# Altium schematic symbol library VFD_CLOCK.SCHLIB: 13 symbols
Pins are listed as number, name and electrical type; pins without a type are passive.

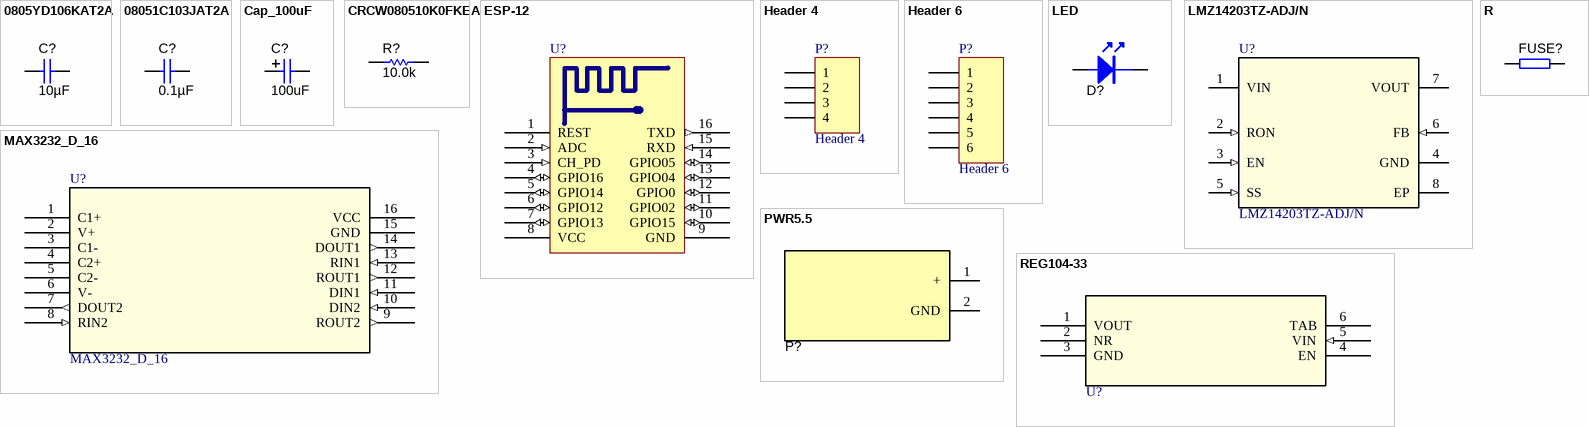
[diagram p0: symbols 0805YD106KAT2A to REG104-33]

## 0805YD106KAT2A
designator C?  ValueDisplayed: 10µF  (hidden comment: 0805YD106KAT2A)
CAP, CERM, 10 µF, 16 V, +/- 10%, X5R, 0805; Manufacturer: AVX; Polarized: N; CompType: Capacitor; Value: 10uF; U/M: EA; Cap_F: 0.00001; Tolerance_%: 10; Value1: Unknown; VDC_V: 16; Value2: 16V; TaMin_C: -55; TaMax_C: 85; Cap_Case: 0805; SizeArea_mm2: 2.5; SizeAreaWB_mm2: 6.75; SizeX_mm: 2; SizeY_mm: 1.25; SizeZ_mm: 1.45; AEC Category: Q200; SymbolVersion: 2008-07-09; PartNumber: 0805YD106KAT2A; PackageReference: 0805; RoHS: Y; MountType: SMT; Technology: Ceramic; TempCo: X5R; Published: 2008-06-19; Publisher: Texas Instruments; LatestRevisionDate: 2016-08-09; ComponentLink1Description: Datasheet link; ComponentLink1URL: http://datasheets.avx.com/cx5r.pdf; Supplier 1: Digi-Key; Supplier Part Number 1: 478-5165-1-ND; Supplier 2: Mouser; Supplier Part Number 2: 581-0805YD106K; Supplier 3: Farnell; Supplier Part Number 3: 2281019; AEC Qualified: N; AEC Grade: N/A
signal-integrity model Cap
simulation model Cap
footprint 0805_HV
footprint 0805_HV1
footprint 0805
footprint 0805M
footprint 0805L
pins: 1, 2

## 08051C103JAT2A
designator C?  ValueDisplayed: 0.1µF  (hidden comment: 08051C103JAT2A)
CAP, CERM, 0.01 µF, 100 V, +/- 5%, X7R, 0805; Manufacturer: AVX; Polarized: N; CompType: Capacitor; Value: 0.01uF; U/M: EA; Cap_F: 0.00000001; Tolerance_%: 5; ESR_ohm: 0.078; Value1: 0.078 ohm; VDC_V: 100; Value2: 100V; TaMin_C: -55; TaMax_C: 125; Cap_Case: 0805; SizeArea_mm2: 2.5; SizeAreaWB_mm2: 6.75; SizeX_mm: 2; SizeY_mm: 1.25; SizeZ_mm: 1.45; AEC Category: Q200; SymbolVersion: 2008-07-09; PartNumber: 08051C103JAT2A; PackageReference: 0805; RoHS: Y; MountType: SMT; Technology: Ceramic; TempCo: X7R; Published: 2008-06-19; Publisher: Texas Instruments; LatestRevisionDate: 2016-08-09; ComponentLink1Description: Datasheet link; ComponentLink1URL: http://datasheets.avx.com/X7RDielectric.pdf; Supplier 1: Digi-Key; Supplier Part Number 1: 478-3745-1-ND; Supplier 2: Mouser; Supplier Part Number 2: 581-08051C103J; Supplier 3: Farnell; Supplier Part Number 3: 1396066; AEC Qualified: N; AEC Grade: N/A
signal-integrity model Cap
simulation model Cap
footprint 0805_HV
footprint 0805_HV1
footprint 0805
footprint 0805M
footprint 0805L
pins: 1, 2

## Cap_100uF
designator C?, comment 100uF
Manufacturer: Used in BOM report; CompType: Used in some BOM reports.  Useful for finding later.; MountType: SMT, TH, or N/A; RoHS: Used in BOM report.  Use Y or N.; PartNumber: Used in BOM report; PackageReference: eg:  0603, used in PnP report; ComponentLink1Description: Datasheet Link; Alternate PartNumber: -; Alternate Manufacturer: -
footprint CAP
pins: 1, 2

## CRCW080510K0FKEA
designator R?  ValueDisplayed: 10.0k  (hidden comment: CRCW080510K0FKEA)
RES, 10.0 k, 1%, 0.125 W, 0805; Manufacturer: Vishay-Dale; CompType: Resistor; Value: 10.0k; Res_ohm: 10000; Value_Code: 10k0; Tolerance_%: 1; Power_W: 0.125; Value2: 0.125W; VDC_V: 150; TempCo: 100 ppm/C; SizeArea_mm2: 2.5; SizeX_mm: 2; SizeY_mm: 1.25; SizeZ_mm: 1.45; EIA_Code: E96; U/M: EA; AEC Category: Q200; SymbolVersion: 2009-05-29; PartNumber: CRCW080510K0FKEA; PackageReference: 0805; RoHS: Y; Value1: 1%; MountType: SMT; Technology: Thick Film; Published: 2008-06-26; Publisher: Texas Instruments; LatestRevisionDate: 2016-08-02; ComponentLink1Description: Datasheet link; ComponentLink1URL: http://www.vishay.com/docs/20035/dcrcwe3.pdf; Supplier 1: Digi-Key; Supplier Part Number 1: 541-10.0KCCT-ND; Supplier 2: Mouser; Supplier Part Number 2: 71-CRCW0805-10K-E3; Supplier 3: Farnell; Supplier Part Number 3: 1469856; AEC Qualified: ?
signal-integrity model Resistor
simulation model Resistor
footprint 0805_HV
footprint 0805_HV1
footprint 0805
footprint 0805M
footprint 0805L
pins: 1, 2

## ESP-12
designator U?  (value not drawn)
footprint ESP_12
pins: 1 REST, 2 ADC (in), 3 CH_PD (in), 4 GPIO16 (io), 5 GPIO14 (io), 6 GPIO12 (io), 7 GPIO13 (io), 8 VCC (power), 9 GND (power), 10 GPIO15 (io), 11 GPIO02 (io), 12 GPIO0 (io), 13 GPIO04 (io), 14 GPIO05 (io), 15 RXD (in), 16 TXD (out)

## Header 4
designator P?
Header, 4-Pin; LatestRevisionDate: 17-Jul-2002; LatestRevisionNote: Re-released for DXP Platform.; Publisher: Altium Limited
footprint HDR1X4 (Connector; Header; 4 Position)
signal-integrity model Connector
pins: 1, 2, 3, 4

## Header 6
designator P?
Header, 6-Pin; LatestRevisionDate: 17-Jul-2002; LatestRevisionNote: Re-released for DXP Platform.; Publisher: Altium Limited
footprint HDR1X6 (Connector; Header; 6 Position)
signal-integrity model Connector
pins: 1, 2, 3, 4, 5, 6

## LED
designator D?, comment RED  (value not drawn)
LED·¢¹â¹Ü
footprint LED3mm
footprint LED5mm
footprint LED0805
footprint LED1206
pins: 1, 2

## LMZ14203TZ-ADJ/N
designator U?
Imported; Manufacturer: Texas Instruments; PartNumber: LMZ14203TZ-ADJ/NOPB; RefDes: RefDes; TYPE: TYPE; Value: Value
footprint NDW0007A
pins: 1 VIN (power), 2 RON (in), 3 EN (in), 4 GND (power), 5 SS (in), 6 FB (in), 7 VOUT (power), 8 EP (power)

## MAX3232_D_16
designator U?
Imported; Manufacturer: Texas Instruments; INDUSTRY_STD_PKG_TYPE: SOIC; FAMILY_NAME: RS-232; PIN_COUNT: 16; PACKAGE_DESIGNATOR: D; Datasheet_URL: http://www.ti.com/lit/gpn/MAX3232; GENERIC_PART_NUMBER: MAX3232; Vendor: Texas Instruments; Manufacturer_Part_Number: max3232_d_16; Value: Value; Type: Type; RefDes: RefDes
footprint D16
pins: 1 C1+, 2 V+ (power), 3 C1-, 4 C2+, 5 C2-, 6 V- (power), 7 DOUT2 (out), 8 RIN2 (in), 9 ROUT2 (out), 10 DIN2 (in), 11 DIN1 (in), 12 ROUT1 (out), 13 RIN1 (in), 14 DOUT1 (out), 15 GND (power), 16 VCC (power)

## PWR5.5
designator P?, comment Used in BOM report  (value not drawn)
CompType: Used in some BOM reports.  Useful for finding later.; Manufacturer: Used in BOM report; MountType: SMT, TH, or N/A; RoHS: Used in BOM report.  Use Y or N.; PartNumber: Used in BOM report; PackageReference: eg:  0603, used in PnP report; ComponentLink1Description: Datasheet Link; Alternate PartNumber: -; Alternate Manufacturer: -
footprint PWR5.5
pins: 1 +, 2 GND

## R
designator FUSE?
µç×è
footprint AXIAL0.5 (12.7mm 1/2W)
footprint AXIAL0.7 (17.78mm 2W 3W)
footprint AXIAL0.8 (20.32mm 3W 4W)
footprint AXIAL0.3 (7.62mm 1/8W 1/4W)
footprint AXIAL0.4 (10.16mm 1/4W 1/2W)
footprint 0805
footprint 1206 (1/4W)
pins: 1, 2

## REG104-33
designator U?  (value not drawn)
Imported; Manufacturer_Part_Number: lp38502ts-adjnopb; Vendor: National; Value: Value; Type: Type; RefDes: RefDes
footprint TO-263
pins: 1 VOUT, 2 NR (power), 3 GND (power), 4 EN (power), 5 VIN (in), 6 TAB (power)